# Altium integrated library RLP73K3AR15FTDF.IntLib: 1 symbol
Pins are listed as number, name and electrical type; pins without a type are passive.

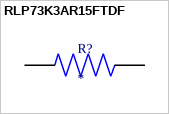
[diagram p0: symbol RLP73K3AR15FTDF]

## RLP73K3AR15FTDF
designator R?
RLP73K 3A R15 1% 1K RL; MP: RLP73K3AR15FTDF; Package: None; Price: None; Value: *; Availability: Unavailable
footprint RESC6331X70N
pins: 1, 2